# Altium footprint library WE-MXGI.PcbLib: 3 footprints
Each footprint in its own frame and in the unit in brackets; x right, y up, seen from the top. Pads: shape width x height; smd on the part's side, far side on the other; paste and mask are expansions set on the pad; w line width, h text height; cw(c..) or ccw(c..) is an arc to the next point about the centre after c.
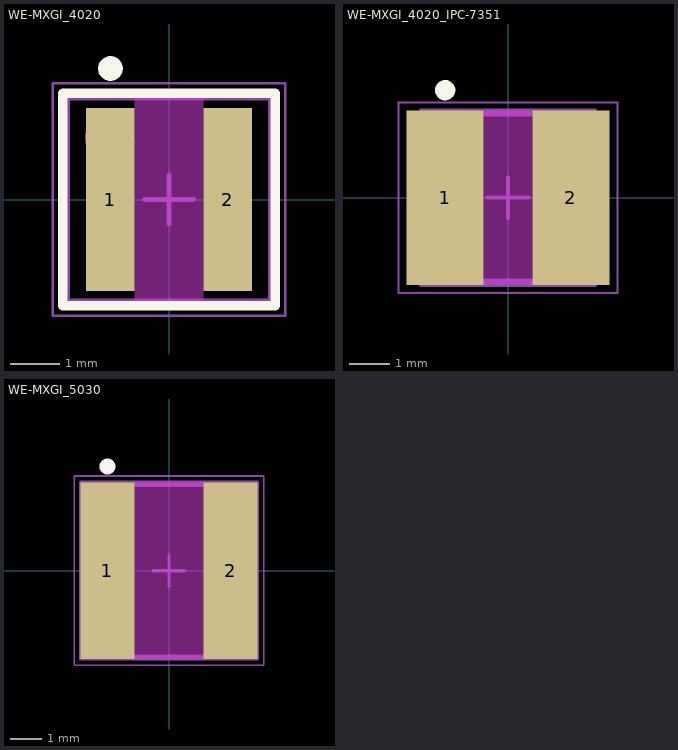
[diagram p0: the footprints below, top view; thin cyan lines are the x and y axes]

## WE-MXGI_4020 [mm] "SMT Power Inductor, body 4.10 x 4.10 mm"
height 2.1
pads (2):
  rect 0.98x3.7 smd: 1(-1.185,0) 2(1.185,0)
Top Layer keep-out:
  region: -0.695,2.05 0.695,2.05 0.695,-2.05 -0.695,-2.05
Top Overlay:
  circle w0.25: c-1.185,2.65 r0.125
  lines w0.2: -2.15,-2.15 -2.15,2.15 2.15,2.15 2.15,-2.15 -2.15,-2.15
Top Assembly:
  circle w0.1: c-1.15,1.15 r0.4
  lines w0.1: -2.15,-2.15 -2.15,2.15 2.15,2.15 2.15,-2.15 -2.15,-2.15
Top Designator:
  text ".Designator" at -3.647,-0.357 h1
Top 3D Body:
  circle w0.1: c-1.25,1.25 r0.4
  lines w0.1: -2.05,-2.05 2.05,-2.05 2.05,2.05 -2.05,2.05 -2.05,-2.05
Top Courtyard:
  lines w0.05: -2.35,-2.35 -2.35,2.35 2.35,2.35 2.35,-2.35 -2.35,-2.35
Top Component Center:
  lines w0.1: -0.5,0 0.5,0 ; 0,-0.5 0,0.5
3D body "WE-MXGI_4020.stp": height 2.15, standoff 0.05, extent -2.05,-2.05 2.05,2.05

## WE-MXGI_4020_IPC-7351 [mm] "SMT Power Inductor, body 4.10 x 4.10 mm"
height 2.1
pads (2):
  rect 1.9x4.3 smd: 1(-1.55,0) 2(1.55,0)
Top Layer keep-out:
  region: -0.6,2.15 0.6,2.15 0.6,-2.15 -0.6,-2.15
Top Overlay:
  circle w0.25: c-1.55,2.65 r0.125
Top Assembly:
  circle w0.1: c-1.15,1.15 r0.4
  lines w0.1: -2.15,-2.15 -2.15,2.15 2.15,2.15 2.15,-2.15 -2.15,-2.15
Top Designator:
  text ".Designator" at -3.647,-0.357 h1
Top 3D Body:
  circle w0.1: c-1.25,1.25 r0.4
  lines w0.1: -2.05,-2.05 2.05,-2.05 2.05,2.05 -2.05,2.05 -2.05,-2.05
Top Courtyard:
  lines w0.05: -2.7,-2.35 2.7,-2.35 2.7,2.35 -2.7,2.35 -2.7,-2.35
Top Component Center:
  lines w0.1: -0.5,0 0.5,0 ; 0,-0.5 0,0.5
3D body "WE-MXGI_4020.stp": height 2.15, standoff 0.05, extent -2.05,-2.05 2.05,2.05

## WE-MXGI_5030 [mm] "SMT Power Inductor, body 5.40 x 5.40 mm"
height 3.1
pads (2):
  rect 1.7x5.6 smd: 1(-1.95,0) 2(1.95,0)
Top Layer keep-out:
  region: -1.1,2.8 1.1,2.8 1.1,-2.8 -1.1,-2.8
Top Overlay:
  circle w0.25: c-1.95,3.3 r0.125
Top Assembly:
  circle w0.1: c-1.8,1.8 r0.4
  lines w0.1: -2.8,-2.8 2.8,-2.8 2.8,2.8 -2.8,2.8 -2.8,-2.8
Top Designator:
  text ".Designator" at -3.647,-0.357 h1
Top 3D Body:
  circle w0.1: c-1.9,1.9 r0.4
  lines w0.1: -2.7,-2.7 -2.7,2.7 2.7,2.7 2.7,-2.7 -2.7,-2.7
Top Courtyard:
  lines w0.05: -3,-3 -3,3 3,3 3,-3 -3,-3
Top Component Center:
  lines w0.1: -0.5,0 0.5,0 ; 0,-0.5 0,0.5
3D body "WE-MXGI_5030.stp": height 3.1, standoff 0, extent -2.7,-2.7 2.7,2.7